# EAGLE library part GEN_8 (library bschulz)
Generic 8 Pin Package for Breakout Boards
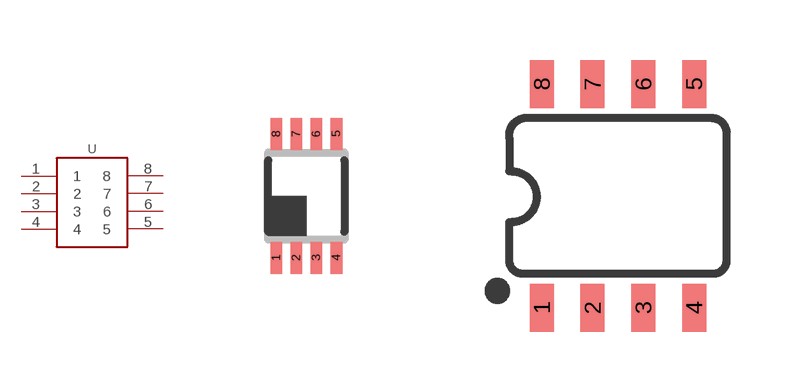
[diagram p98: symbol with the pads of DCU_(R-PDSO-G8); footprints DCU_(R-PDSO-G8), SO08]

Designator prefix U

## GEN_8VSOP  [DCU_(R-PDSO-G8)]
1  1
2  2
3  3
4  4
5  5
6  6
7  7
8  8

## GEN_8SOIC  [SO08]
Pads as for DCU_(R-PDSO-G8)

## GEN_8DQM  [DQM_R-PX2SON-N8]
Pads as for DCU_(R-PDSO-G8)

## GEN_8DQE  [DQE_R-PX2SON-N8]
Pads as for DCU_(R-PDSO-G8)

## GEN_8DFN  [DFN_8_2.5X2.5]
Pads as for DCU_(R-PDSO-G8)

## GEN_8QFN_1.4X1.2  [UQFN-8_1.4X1.2]
Pads as for DCU_(R-PDSO-G8)

## GEN_8TS8  [TS8]
Pads as for DCU_(R-PDSO-G8)

## Footprint DCU_(R-PDSO-G8) (pad centres in mm)
DCU (R-PDSO-G8) PLASTIC SMALL OUTLINE PACKAGE (DIE DOWN) Soure: Data sheet <http://www.ti.com/lit/ds/symlink/ads7042.pdf>
smd 0.3 x 0.8: 1 -0.75,-1.55; 2 -0.25,-1.55; 3 0.25,-1.55; 4 0.75,-1.55; 5 0.75,1.55; 6 0.25,1.55; 7 -0.25,1.55; 8 -0.75,1.55

## Footprint SO08 (pad centres in mm)
SOIC, 0.15 inch width
smd 0.6 x 1.2: 1 -1.905,-2.8; 2 -0.635,-2.8; 3 0.635,-2.8; 4 1.905,-2.8; 5 1.905,2.8; 6 0.635,2.8; 7 -0.635,2.8; 8 -1.905,2.8

## Footprint DQM_R-PX2SON-N8 (pad centres in mm)
smd 0.2 x 0.7: 1 -0.6,-0.45; 2 -0.2,-0.45; 3 0.2,-0.45; 4 0.6,-0.45; 5 0.6,0.45; 6 0.2,0.45; 7 -0.2,0.45; 8 -0.6,0.45

## Footprint DQE_R-PX2SON-N8 (pad centres in mm)
smd 0.19 x 0.51: 1 -0.525,-0.335; 2 -0.175,-0.335; 3 0.175,-0.335; 4 0.525,-0.335; 5 0.525,0.335; 6 0.175,0.335; 7 -0.175,0.335; 8 -0.525,0.335

## Footprint DFN_8_2.5X2.5 (pad centres in mm)
DFN Package for SHT3x-DIS (SHT31, SHT35) Ref Datasheet <https://media.digikey.com/pdf/Data%20Sheets/Sensirion%20PDFs/HT_DS_SHT3x_DIS.pdf>
smd 0.55 x 0.25: 1 -1.175,0.75; 2 -1.175,0.25; 3 -1.175,-0.25; 4 -1.175,-0.75; 5 1.175,-0.75; 6 1.175,-0.25; 7 1.175,0.25; 8 1.175,0.75
smd 1 x 1: EP 0,0

## Footprint UQFN-8_1.4X1.2 (pad centres in mm)
UQFN, 8 pos, 0.4mm pitch, 1.4x1.2mm body Datasheet <https://www.onsemi.cn/pdf/datasheet/fxmar2102-d.pdf>
smd 0.55 x 0.25: 1 -0.53,0
smd 0.25 x 0.45: 2 -0.4,-0.475; 3 0,-0.475; 4 0.4,-0.475; 6 0.4,0.475; 7 0,0.475; 8 -0.4,0.475
smd 0.45 x 0.25: 5 0.58,0

## Footprint TS8 (pad centres in mm)
TS8 (TSOT-23), 8 Pos Datasheet <https://www.analog.com/media/en/technical-documentation/data-sheets/2451fg.pdf>
smd 1.22 x 0.52: 1 -1.31,0.975; 2 -1.31,0.325; 3 -1.31,-0.325; 4 -1.31,-0.975; 5 1.31,-0.975; 6 1.31,-0.325; 7 1.31,0.325; 8 1.31,0.975